# EAGLE library part 338070-10 (library con-te-micro-match)
RECEPTACAL
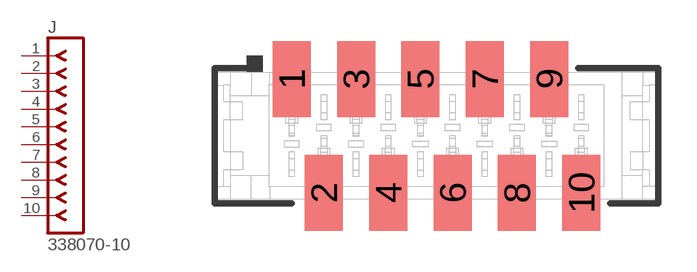
[diagram p2: symbol with the pads of 338070-10; footprint 338070-10]

Designator prefix J

## 338070-10  [338070-10]
1  1  pas
2  2  pas
3  3  pas
4  4  pas
5  5  pas
6  6  pas
7  7  pas
8  8  pas
9  9  pas
10  10  pas

## Footprint 338070-10 (pad centres in mm)
RECEPTACAL
smd 1.5 x 3: 1 -5.715,2.25; 2 -4.445,-2.25; 3 -3.175,2.25; 4 -1.905,-2.25; 5 -0.635,2.25; 6 0.635,-2.25; 7 1.905,2.25; 8 3.175,-2.25; 9 4.445,2.25; 10 5.715,-2.25